# Altium footprint library BSPD_pcblibrary.PcbLib: 22 footprints (part 1 of 2)
Each footprint in its own frame and in the unit in brackets; x right, y up, seen from the top. Pads: shape width x height; smd on the part's side, far side on the other; paste and mask are expansions set on the pad; w line width, h text height; cw(c..) or ccw(c..) is an arc to the next point about the centre after c.
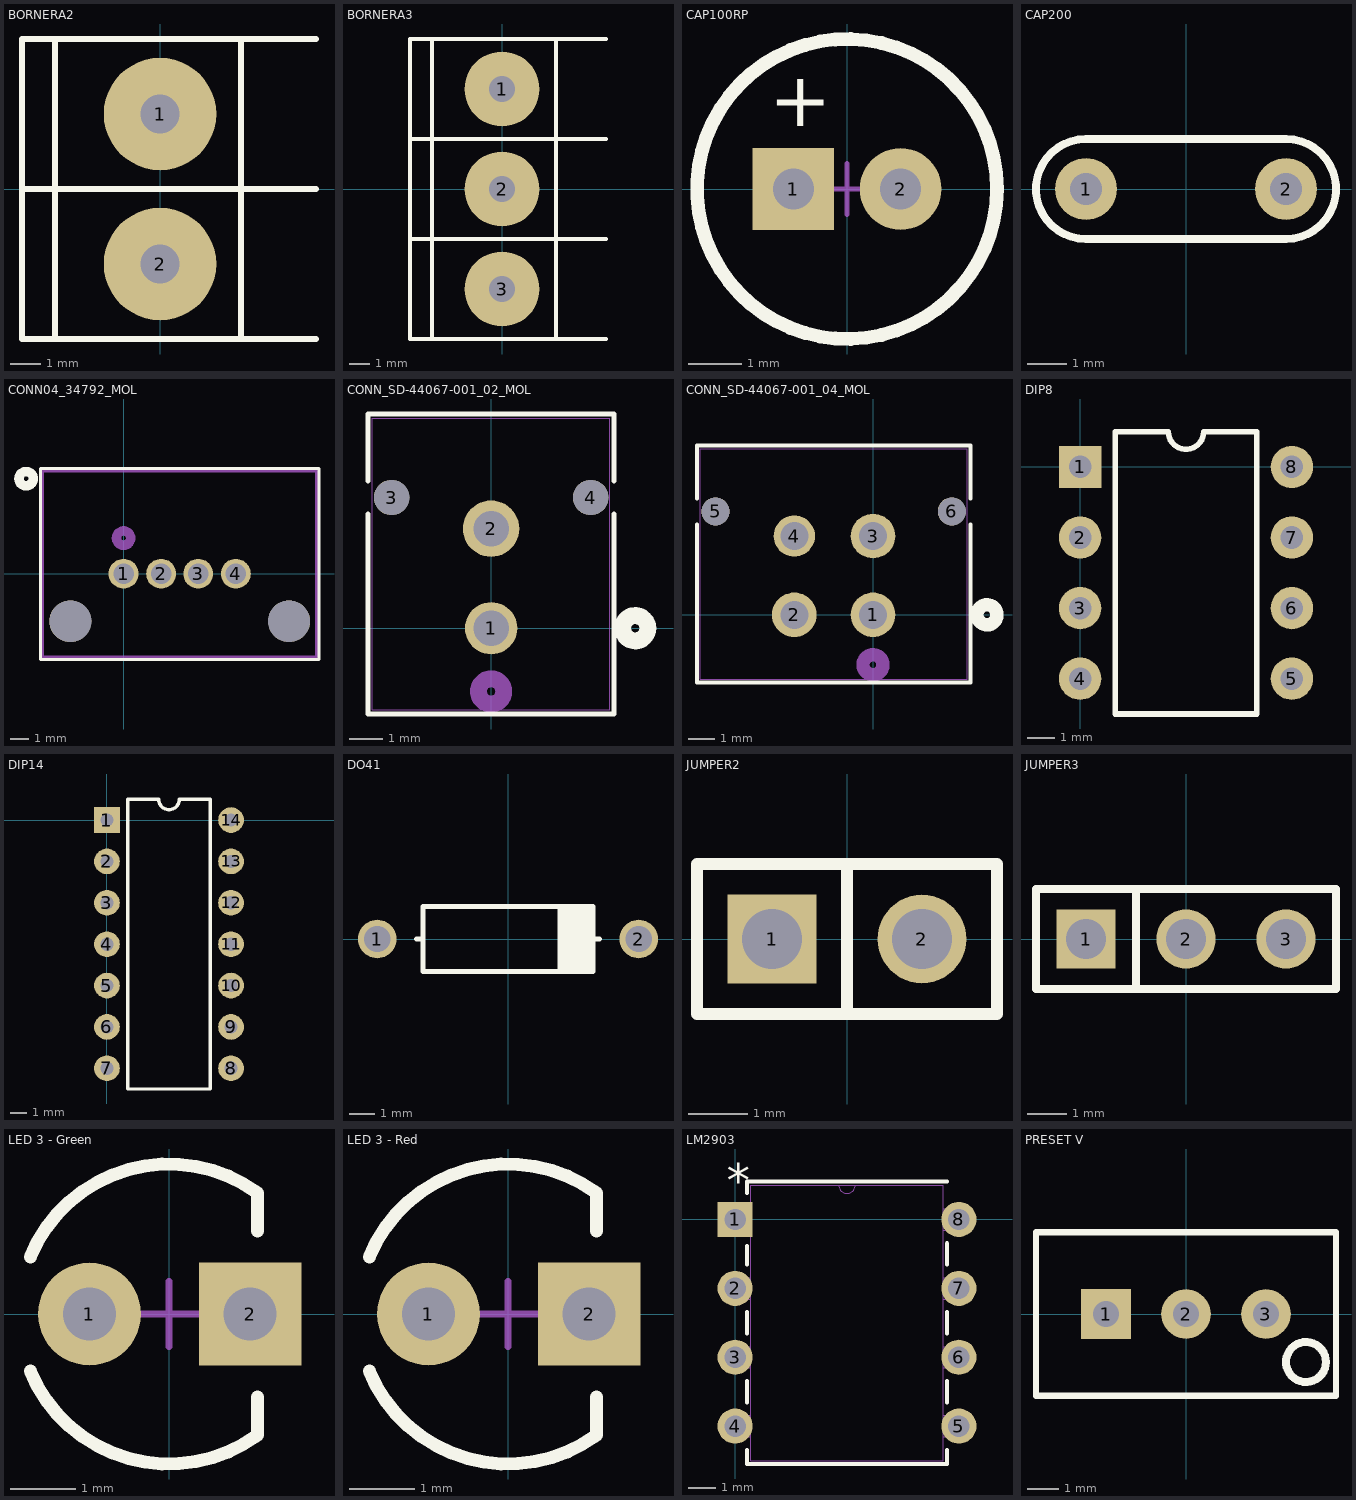
[diagram p0: the footprints below, top view; thin cyan lines are the x and y axes]

## BORNERA2 [mm] "Bornera con Tornillos 5mm separación"
pads (2):
  round 3.75 hole 1.3: 1(0,2.5) 2(0,-2.5)
Top Overlay:
  lines w0.2: -4.6,0 5.2,0 ; -3.5,-5 -3.5,5 ; 2.7,-5 2.7,5 ; 5.2,-5 -4.6,-5 -4.6,5 5.2,5
3D body "BORNERA_2.step": height 10, standoff -2.28, extent -3.763,-4.893 3.937,5.607

## BORNERA3 [mm] "Bornera con Tornillos 5mm separación"
pads (3):
  round 3.75 hole 1.3: 1(0,5) 2(0,0) 3(0,-5)
Top Overlay:
  lines w0.2: -4.6,-2.5 5.2,-2.5 ; -4.6,2.5 5.2,2.5 ; -3.5,-7.5 -3.5,7.5 ; 2.7,-7.5 2.7,7.5 ; 5.2,-7.5 -4.6,-7.5 -4.6,7.5 5.2,7.5
3D body "BORNERA_3.step": height 10.05, standoff -2.24, extent -3.763,-7.393 3.937,8.107

## CAP100RP [mil] "Body diameter 5mm"
pads (2):
  rect 60x60 hole 30: 1(-39.37,0)
  round 60 hole 30: 2(39.37,0)
Top Overlay:
  circle w10: c0,0 r110
  text "+" at -57,46 h40
Mechanical 15:
  lines w3.94: -18.7,0 18.7,0 ; 0,-18.7 0,18.7
3D body "User Library-Cap electro 5x11x2mm.step": height 453.76, standoff -128.81, extent -99.42,-99 99.43,99.85

## CAP200 [mil]
pads (2):
  round 62 hole 32: 1(-100,0) 2(100,0)
Top Overlay:
  lines w7.87: -100,-50 cw(c-100,0) -100,50 100,50 cw(c100,0) 100,-50 -100,-50
3D body "CAP200.step": height 245.67, standoff -54.33, extent -110,-46 110,43.99

## CONN04_34792_MOL [mil]
pads (6):
  round 63 hole 43: 1(0,0) 2(79,0) 3(157,0) 4(236,0)
  round 88 hole 88 unplated: ""(-112,-100) ""(348,-100)
Top Overlay:
  lines w6: -175,-180 411,-180 411,221 -175,221 -175,-180
  lines w20: -220,200 ccw(c-205,200) -190,200 ccw(c-205,200) -220,200
Bottom Overlay:
  lines w20: -220,200 ccw(c-205,200) -190,200 ccw(c-205,200) -220,200
Mechanical 13:
  lines w6: -170,-175 406,-175 406,216 -170,216 -170,-175
  lines w20: -15,75 ccw(c0,75) 15,75 ccw(c0,75) -15,75
3D body "347920040.stp": height 555.61, standoff -166.04, extent -169.64,-175.97 405.88,218.33

## CONN_SD-44067-001_02_MOL [mil]
pads (4):
  round 62 hole 42 paste-31 mask+0: 1(0,0)
  round 66.93 / inner round 62 / far side round 62 hole 42 paste-31 mask+0: 2(0,118.11)
  round 42 hole 42 unplated paste+0 mask+0: 3(-118.11,155.12) 4(118.11,155.12)
Top Overlay:
  circle w20: c171,0 r15
  lines w6: -146,135.5 -146,-101.79 146,-101.79 146,135.5 ; -146,174.74 -146,254.21 146,254.21 146,174.74
Bottom Overlay:
  circle w20: c171,0 r15
Mechanical 13:
  circle w20: c0,-75 r15
  lines w1: -141,-96.79 141,-96.79 141,249.21 -141,249.21 -141,-96.79
3D body "0440670201.stp": height 390.66, standoff -157.37, extent -140.74,-96.29 140.76,250.17

## CONN_SD-44067-001_04_MOL [mm]
pads (6):
  round 1.7 / inner round 1.575 / far side round 1.575 hole 1.067 paste-0.787 mask+0: 1(0,0) 2(-3,0) 3(0,3)
  round 1.575 hole 1.067 paste-0.787 mask+0: 4(-3,3)
  round 1.067 hole 1.067 unplated paste+0 mask+0: 5(-6,3.94) 6(3,3.94)
Top Overlay:
  circle w0.508: c4.342,0 r0.381
  lines w0.152: -6.707,3.44 -6.707,-2.585 3.707,-2.585 3.707,3.44 ; -6.707,4.44 -6.707,6.457 3.707,6.457 3.707,4.44
Bottom Overlay:
  circle w0.508: c4.342,0 r0.381
Mechanical 13:
  circle w0.508: c0,-1.905 r0.381
  lines w0.025: -6.58,-2.458 3.58,-2.458 3.58,6.33 -6.58,6.33 -6.58,-2.458
3D body "0440670401.stp": height 9.42, standoff -4.5, extent -6.472,-2.573 3.678,6.227

## DIP8 [mil]
pads (8):
  rect 60x60 hole 32: 1(0,0)
  round 60 hole 32: 2(0,-100) 3(0,-200) 4(0,-300) 5(300,-300) 6(300,-200) 7(300,-100) 8(300,0)
Top Overlay:
  lines w7.87: 50,-350 250,-350 250,50 175,50 cw(c150,50) 125,50 50,50 50,-350
3D body "DIP8.step": height 177.17, standoff -137.8, extent -2.53,-362.6 303,62.59

## DIP14 [mil]
pads (14):
  rect 62x62 hole 32: 1(0,0)
  round 62 hole 32: 2(0,-100) 3(0,-200) 4(0,-300) 5(0,-400) 6(0,-500) 7(0,-600) 8(300,-600) 9(300,-500) 10(300,-400) 11(300,-300) 12(300,-200) 13(300,-100) 14(300,0)
Top Overlay:
  lines w8: 50,-650 250,-650 250,50 175,50 cw(c150,50) 125,50 50,50 50,-650
3D body "SW3DPS-DIP14-DEFAULT.step": height 165, standoff -105, extent -5,-675 305,75

## DO41 [mm]
pads (2):
  round 1.5 hole 1.016: 1(-5.08,0) 2(5.08,0)
Top Overlay:
  rectangle: 2.032,-1.27 3.302,1.27
  lines w0.2: -3.556,0 -3.302,0 ; 2.032,-1.27 2.032,1.27 ; 3.302,0 3.556,0 ; -3.302,-1.27 -3.302,1.27 3.302,1.27 3.302,-1.27 -3.302,-1.27
3D body "DO41.step": height 2.03, standoff -3.06, extent -5.461,-1.194 5.461,1.372

## JUMPER2 [mm]
pads (2):
  rect 1.5x1.5 hole 1.016: 1(-1.27,0)
  round 1.5 hole 1.016: 2(1.27,0)
Top Overlay:
  lines w0.2: 0,-1.27 0,1.27 ; -2.54,-1.27 2.54,-1.27 2.54,1.27 -2.54,1.27 -2.54,-1.27
3D body "Jumper SL2.STEP": height 9.5, standoff -2.6, extent -2.46,-1.27 2.54,1.27

## JUMPER3 [mm]
pads (3):
  rect 1.5x1.5 hole 1.016: 1(-2.54,0)
  round 1.5 hole 1.016: 2(0,0) 3(2.54,0)
Top Overlay:
  lines w0.2: -1.27,-1.27 -1.27,1.27 ; -3.81,-1.27 3.81,-1.27 3.81,1.27 -3.81,1.27 -3.81,-1.27
3D body "User Library-Mini Jumper.step": height 16.15, standoff 2.65, extent -3.795,-1.12 1.255,1.27
3D body "SIP3.step": height 8.38, standoff -2.54, extent -3.81,-1.296 3.81,1.244

## LED 3 - Green [mil]
pads (2):
  round 62 hole 32: 1(-48,0)
  rect 62x62 hole 32: 2(49,0)
Top Overlay:
  lines w7.87: -83.73,-34.48 ccw(c0,0) 53.55,-73.02 53.55,-50 ; -83.73,34.48 cw(c0,0) 53.55,73.02 53.55,50
Mechanical 15:
  lines w3.94: -19.69,0 19.68,0 ; 0,-19.68 0,19.69
3D body "SW3dPS-LEDd3G.STEP": height 236.72, standoff -78.24, extent -63.5,-65.13 66.42,64.8

## LED 3 - Red [mil]
pads (2):
  round 62 hole 32: 1(-48,0)
  rect 62x62 hole 32: 2(49,0)
Top Overlay:
  lines w7.87: -83.73,-34.48 ccw(c0,0) 53.55,-73.02 53.55,-50 ; -83.73,34.48 cw(c0,0) 53.55,73.02 53.55,50
Mechanical 15:
  lines w3.94: -19.69,0 19.68,0 ; 0,-19.68 0,19.69
3D body "SW3dPS-LEDd3R.STEP": height 236.72, standoff -78.24, extent -63.51,-65.13 66.41,64.8

## LM2903 [mil]
pads (8):
  rect 51x51 / inner round 60 / far side rect 51x51 hole 31 paste-25.5 mask+0: 1(0,0)
  round 51 / inner round 60 / far side round 51 hole 31 paste-25.5 mask+0: 2(0,-100) 3(0,-200) 4(0,-300) 5(324.8,-300) 6(324.8,-200) 7(324.8,-100) 8(324.8,0)
Top Overlay:
  lines w6: 17.4,-334.45 17.4,-355 307.4,-355 307.4,-334.45 ; 17.4,-265.55 17.4,-234.46 ; 17.4,-165.54 17.4,-134.46 ; 17.4,-65.55 17.4,-38.6 ; 17.4,38.6 17.4,55 307.4,55 ; 307.4,-265.55 307.4,-234.46 ; 307.4,-165.54 307.4,-134.46 ; 307.4,-65.55 307.4,-34.45
  text "*" at -12.5,30.5 h50
Mechanical 13:
  lines w0: 150.4,50 ccw(c162.4,50) 174.4,50
  lines w1: -15.5,-315.5 -15.5,-284.5 22.4,-284.5 22.4,-315.5 -15.5,-315.5 ; -15.5,-215.5 -15.5,-184.5 22.4,-184.5 22.4,-215.5 -15.5,-215.5 ; -15.5,-115.5 -15.5,-84.5 22.4,-84.5 22.4,-115.5 -15.5,-115.5 ; -15.5,-15.5 -15.5,15.5 22.4,15.5 22.4,-15.5 -15.5,-15.5 ; 22.4,-350 302.4,-350 302.4,50 22.4,50 22.4,-350 ; 302.4,-315.5 302.4,-284.5 340.3,-284.5 340.3,-315.5 302.4,-315.5 ; 302.4,-215.5 302.4,-184.5 340.3,-184.5 340.3,-215.5 302.4,-215.5 ; 302.4,-115.5 302.4,-84.5 340.3,-84.5 340.3,-115.5 302.4,-115.5 ; 302.4,-15.5 302.4,15.5 340.3,15.5 340.3,-15.5 302.4,-15.5
  text "*" at 19.9,-25 h50
3D body "PDIP8_7P11X10P16_ONS.step": height 215.12, standoff -100, extent -5,-350 339.8,50

## PRESET V [mil]
pads (3):
  rect 62x62 hole 32: 1(-100,0)
  round 62 hole 32: 2(0,0) 3(100,0)
Top Overlay:
  circle w10: c150,-60 r25
  lines w7.87: -187.5,-102.36 -187.5,102.36 187.5,102.36 187.5,-102.36 -187.5,-102.36
3D body "Preset.step": height 454.72, standoff -251.97, extent -185.19,-95.09 190,95.1